# Altium schematic symbol library Hamamatsu.SchLib: 1 symbol
Pins are listed as number, name and electrical type; pins without a type are passive.

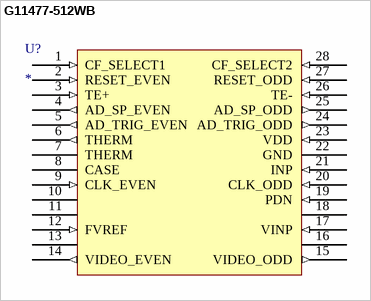
[diagram p0: symbol G11477-512WB]

## G11477-512WB
designator U?
pins: 1 CF_SELECT1 (in), 2 RESET_EVEN (in), 3 TE+ (in), 4 AD_SP_EVEN (out), 5 AD_TRIG_EVEN (out), 6 THERM (out), 7 THERM (power), 8 CASE, 9 CLK_EVEN (in), 10, 11, 12 FVREF (in), 13, 14 VIDEO_EVEN (out), 15 VIDEO_ODD (out), 16, 17 VINP (in), 18, 19 PDN (in), 20 CLK_ODD (in), 21 INP (in), 22 GND, 23 VDD (in), 24 AD_TRIG_ODD (out), 25 AD_SP_ODD (out), 26 TE- (in), 27 RESET_ODD (in), 28 CF_SELECT2 (in)